# EAGLE library part FOD053 (library jasons_stuff)
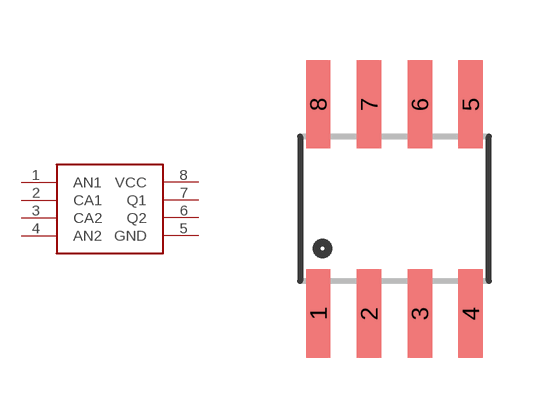
[diagram p39: symbol with the pads of SO08; footprint SO08]

Designator prefix -

## FOD053  [SO08]
1  AN1
2  CA1
3  CA2
4  AN2
5  GND  pwr
6  Q2
7  Q1
8  VCC  pwr

## Footprint SO08 (pad centres in mm)
Small Outline Package Fits JEDEC packages (narrow SOIC-8)
smd 0.61 x 2.21: 1 -1.905,-2.616; 2 -0.635,-2.616; 3 0.635,-2.616; 4 1.905,-2.616; 5 1.905,2.616; 6 0.635,2.616; 7 -0.635,2.616; 8 -1.905,2.616